# EAGLE library part EXB-V8V103JV (library EXB-V8V103JV)
Resistor Networks & Arrays 10K OHM 5% Source: Datasheet <https://industrial.panasonic.com/cdbs/www-data/pdf/AOC0000/AOC0000C14.pdf>
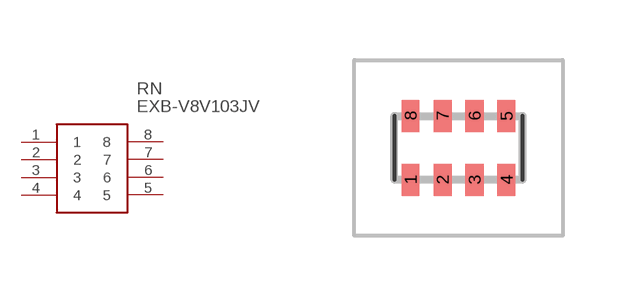
[diagram p0: symbol with the pads of EXB38V472JV; footprint EXB38V472JV]

Designator prefix RN

## EXB-V8V103JV (Description: Resistor Networks & Arrays 10K OHM 5%; Height: 0mm; Manufacturer_Name: Panasonic; Manufacturer_Part_Number: EXB-V8V103JV; Mouser_Part_Number: 667-EXB-V8V103JV; Mouser_Price-Stock: https://www.mouser.co.uk/ProductDetail/Panasonic/EXB-V8V103JV?qs=uA7cY%2Fh6FfV8sjMUFAyjLA%3D%3D)  [EXB38V472JV]
1  1
2  2
3  3
4  4
5  5
6  6
7  7
8  8

## Footprint EXB38V472JV (pad centres in mm)
EXB38V_FFW
smd 0.45 x 0.8: 1 -1.2,-0.8; 2 -0.4,-0.8; 3 0.4,-0.8; 4 1.2,-0.8; 5 1.2,0.8; 6 0.4,0.8; 7 -0.4,0.8; 8 -1.2,0.8